# EAGLE library part MAX3222E_MAX3222E (library onspeed)
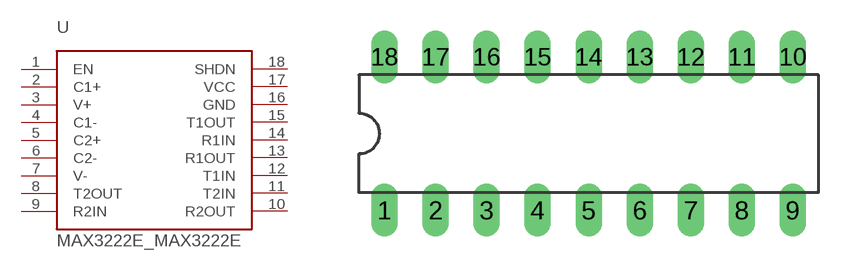
[diagram p2: symbol with the pads of MAX3222E_DIL18; footprint MAX3222E_DIL18]

Designator prefix -

## MAX3222E_MAX3222EEPN+  [MAX3222E_DIL18]
1  EN
2  C1+
3  V+
4  C1-
5  C2+
6  C2-
7  V-
8  T2OUT
9  R2IN
10  R2OUT
11  T2IN
12  T1IN
13  R1OUT
14  R1IN
15  T1OUT
16  GND
17  VCC
18  SHDN

## Footprint MAX3222E_DIL18 (pad centres in mm)
Dual In Line Package
drill 0.813 long: 1 -10.16,-3.81; 2 -7.62,-3.81; 3 -5.08,-3.81; 4 -2.54,-3.81; 5 0,-3.81; 6 2.54,-3.81; 7 5.08,-3.81; 8 7.62,-3.81; 9 10.16,-3.81; 10 10.16,3.81; 11 7.62,3.81; 12 5.08,3.81; 13 2.54,3.81; 14 0,3.81; 15 -2.54,3.81; 16 -5.08,3.81; 17 -7.62,3.81; 18 -10.16,3.81